# EAGLE library part NV25640 (library pepin)
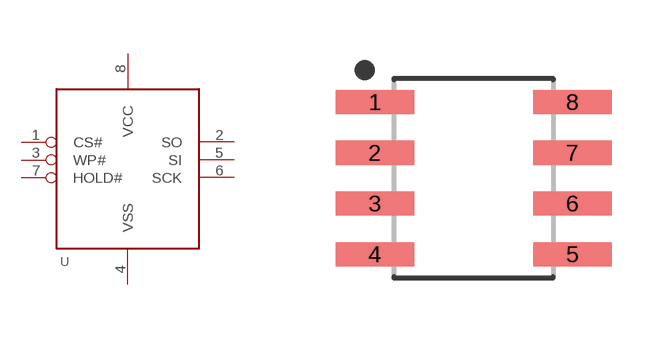
[diagram p26: symbol with the pads of SOIC127P599X175-8; footprint SOIC127P599X175-8]

Designator prefix U

## NV25640SOIC-8  [SOIC127P599X175-8]
1  CS#
2  SO
3  WP#
4  VSS  pwr
5  SI
6  SCK
7  HOLD#
8  VCC  pwr

## Footprint SOIC127P599X175-8 (pad centres in mm)
8-SOIC, 1.27 mm pitch, 6.00 mm span, 4.91 X 3.90 X 1.75 mm body 8-pin SOIC package with 1.27 mm pitch, 6.00 mm span with body size 4.91 X 3.90 X 1.75 mm
smd 1.965 x 0.602: 1 -2.47,1.905; 2 -2.47,0.635; 3 -2.47,-0.635; 4 -2.47,-1.905; 5 2.47,-1.905; 6 2.47,-0.635; 7 2.47,0.635; 8 2.47,1.905